# Altium footprint library LHE05-20Dxx.PcbLib: 1 footprints
Each footprint in its own frame and in the unit in brackets; x right, y up, seen from the top. Pads: shape width x height; smd on the part's side, far side on the other; paste and mask are expansions set on the pad; w line width, h text height; cw(c..) or ccw(c..) is an arc to the next point about the centre after c.
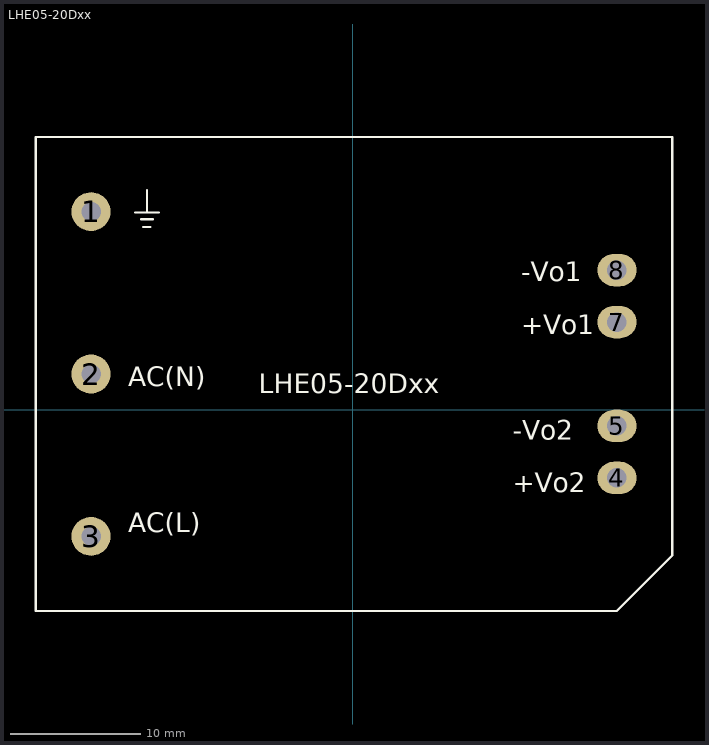
[diagram p0: the footprint, top view; thin cyan lines are the x and y axes]

## LHE05-20Dxx [mm]
height 20.5
pads (7):
  round 3 hole 1.5: 1(-20.172,15.244) 2(-20.172,2.744) 3(-20.172,-9.756)
  oval 3x2.5 hole 1.5: 4(20.328,-5.256) 5(20.328,-1.256) 7(20.328,6.744) 8(20.328,10.744)
Top Overlay:
  lines w0.175: -16.785,15.175 -14.944,15.175 ; -16.327,14.661 -15.403,14.661 ; -16.147,14.069 -15.583,14.069 ; -15.865,15.175 -15.865,16.886 ; -24.422,-15.506 -24.422,20.994 24.578,20.994 24.578,-11.236 20.308,-15.506 -24.422,-15.506
  text "-Vo1" at 12.962,9.879 h1.5
  text "+Vo2" at 12.319,-6.37 h1.5
  text "AC(L)" at -17.29,-9.433 h1.5
  text "AC(N)" at -17.29,1.782 h1.5
  text "LHE05-20Dxx" at -7.239,1.27 h1.5
  text "+Vo1" at 12.962,5.817 h1.5
  text "-Vo2" at 12.319,-2.308 h1.5